# EAGLE library part DRV8833-PWP (library drv8833)
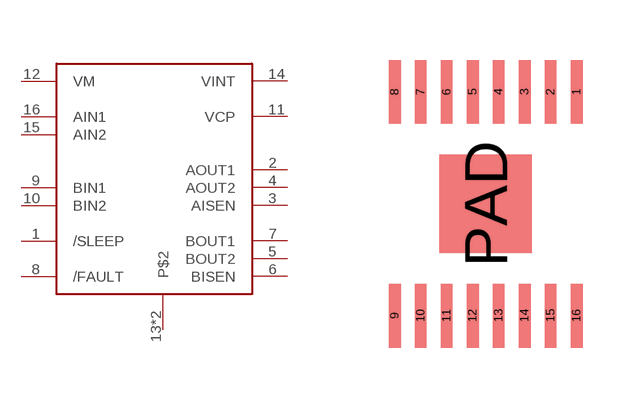
[diagram p0: symbol with the pads of PW; footprint PW]

Designator prefix -

## DRV8833-PWP  [PW]
1  /SLEEP
2  AOUT1
3  AISEN
4  AOUT2
5  BOUT2
6  BISEN
7  BOUT1
8  /FAULT
9  BIN1
10  BIN2
11  VCP
12  VM
13  P$2
14  VINT
15  AIN2
16  AIN1
PAD  P$2

## Footprint PW (pad centres in mm)
smd 0.3 x 1.6: 1 2.275,2.8; 2 1.625,2.8; 3 0.975,2.8; 4 0.325,2.8; 5 -0.325,2.8; 6 -0.975,2.8; 7 -1.625,2.8; 8 -2.275,2.8; 9 -2.275,-2.8; 10 -1.625,-2.8; 11 -0.975,-2.8; 12 -0.325,-2.8; 13 0.325,-2.8; 14 0.975,-2.8; 15 1.625,-2.8; 16 2.275,-2.8
smd 2.31 x 2.46: PAD 0,0